# EAGLE library part SMD-RES-ARRAY-330R-4R-5%(RA0603-8) (library OPL-Resistor)
301030007
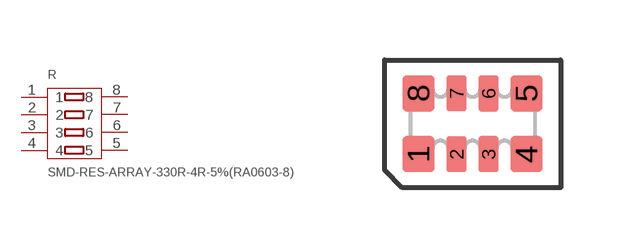
[diagram p1: symbol with the pads of RA0603-8; footprint RA0603-8]

Designator prefix R

## SMD-RES-ARRAY-330R-4R-5%(RA0603-8) (MPN: SMD-RES-Array-330R-4R-5%)  [RA0603-8]
1  1
2  2
3  3
4  4
5  5
6  6
7  7
8  8

## Footprint RA0603-8 (pad centres in mm)
smd 0.8 x 0.9: 1 -1.35,-0.762; 4 1.35,-0.762; 5 1.35,0.762; 8 -1.35,0.762
smd 0.5 x 0.89: 2 -0.4,-0.762; 7 -0.4,0.762
smd 0.5 x 0.9: 3 0.4,-0.762; 6 0.4,0.762